# Altium footprint library PHDR-1X16-TH-M.PcbLib: 1 footprints
Each footprint in its own frame and in the unit in brackets; x right, y up, seen from the top. Pads: shape width x height; smd on the part's side, far side on the other; paste and mask are expansions set on the pad; w line width, h text height; cw(c..) or ccw(c..) is an arc to the next point about the centre after c.
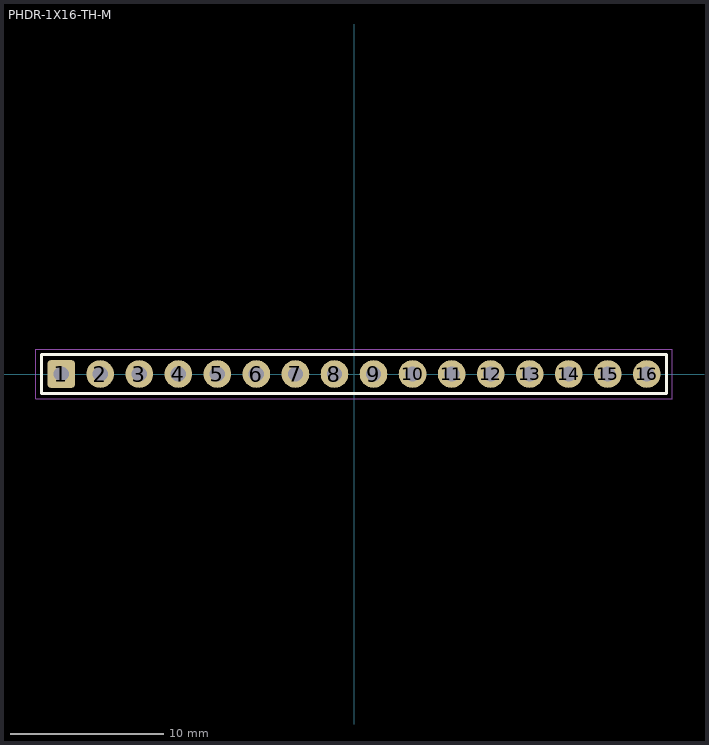
[diagram p0: the footprint, top view; thin cyan lines are the x and y axes]

## PHDR-1X16-TH-M [mm] "Pin Header 1x16 Male TH Pitch 2.54mm"
height 9.5
pads (16):
  rrect25% 1.8x1.8 hole 1: 1(-19.05,0)
  round 1.8 hole 1: 2(-16.51,0) 3(-13.97,0) 4(-11.43,0) 5(-8.89,0) 6(-6.35,0) 7(-3.81,0) 8(-1.27,0) 9(1.27,0) 10(3.81,0) 11(6.35,0) 12(8.89,0) 13(11.43,0) 14(13.97,0) 15(16.51,0) 16(19.05,0)
Top Overlay:
  lines w0.2: -20.32,-1.27 20.32,-1.27 20.32,1.27 -20.32,1.27 -20.32,-1.27
Top Assembly:
  lines w0.1: -20.32,-1.27 -20.32,1.27 20.32,1.27 20.32,-1.27 -20.32,-1.27
Top Courtyard:
  lines w0.05: -20.7,-1.6 20.7,-1.6 20.7,1.6 -20.7,1.6 -20.7,-1.6
Top Designator:
  text ".Designator" at -7.498,-0.5 h1.5
3D body "Pin Header 1x16 TH Pitch 2.54mm.stp": height 9.5, standoff -3.2, extent -20.32,-1.27 20.32,1.27